# EAGLE library part _CON_2X12_4.2MM_H_TH_(ATX) (library SamacSys_Parts)
24P VAL-U-LOK R/A HDR V2 Source: Datasheet <https://www.te.com/commerce/DocumentDelivery/DDEController?Action=srchrtrv&DocNm=1586041&DocType=Customer Drawing&DocLang=English>
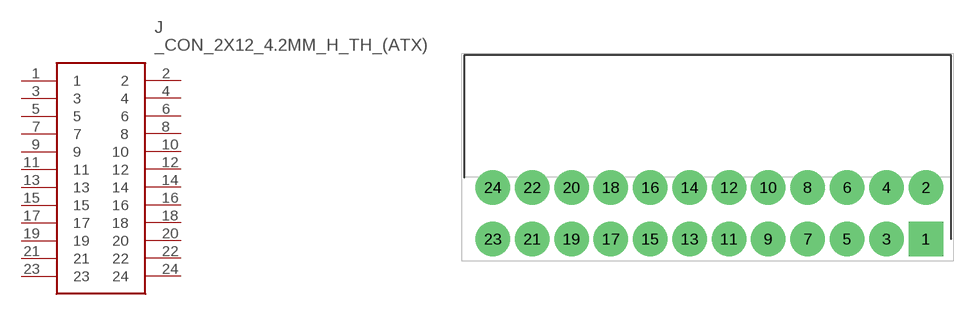
[diagram p9: symbol with the pads of RHDRRA24W160P550X420_2X12_5160; footprint RHDRRA24W160P550X420_2X12_5160]

Designator prefix J

## _CON_2X12_4.2MM_H_TH_(ATX) (DESCRIPTION: 24P VAL-U-LOK R/A HDR V2; HEIGHT: 10.2mm; MANUFACTURER_NAME: TE Connectivity; MANUFACTURER_PART_NUMBER: 2-1586041-4; MOUSER_PART_NUMBER: 571-215860414; MOUSER_PRICE-STOCK: https://www.mouser.co.uk/ProductDetail/TE-Connectivity-AMP/2-1586041-4?qs=ZDXmSm13590%252BLSBXzo4MhQ%3D%3D)  [RHDRRA24W160P550X420_2X12_5160]
1  1
2  2
3  3
4  4
5  5
6  6
7  7
8  8
9  9
10  10
11  11
12  12
13  13
14  14
15  15
16  16
17  17
18  18
19  19
20  20
21  21
22  22
23  23
24  24

## Footprint RHDRRA24W160P550X420_2X12_5160 (pad centres in mm)
2-1586041-4
drill 2.45 pad 3.675 square: 1 0,0
drill 2.45 pad 3.675: 2 0,5.5; 3 -4.2,0; 4 -4.2,5.5; 5 -8.4,0; 6 -8.4,5.5; 7 -12.6,0; 8 -12.6,5.5; 9 -16.8,0; 10 -16.8,5.5; 11 -21,0; 12 -21,5.5; 13 -25.2,0; 14 -25.2,5.5; 15 -29.4,0; 16 -29.4,5.5; 17 -33.6,0; 18 -33.6,5.5; 19 -37.8,0; 20 -37.8,5.5; 21 -42,0; 22 -42,5.5; 23 -46.2,0; 24 -46.2,5.5